# EAGLE library part LEDMATRIX (library SPCoast)
MAX7219 dot matrix module http://www.ebay.com/itm/10pcs-MAX7219-dot-matrix-module-Arduino-microcontroller-module-DIY-KIT-M67-/351218529526
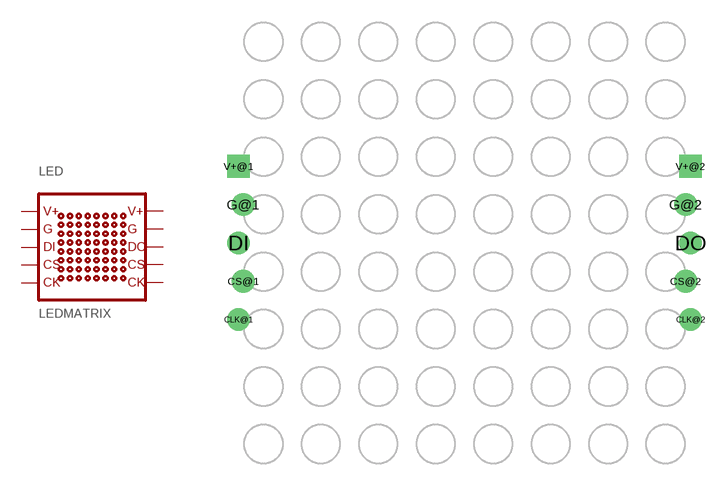
[diagram p38: symbol with the pads of LEDMATRIX; footprint LEDMATRIX]

Designator prefix LED

## LEDMATRIX  [LEDMATRIX]
CLK@1  CLK
CLK@2  CLK
CS@1  CS
CS@2  CS
DI  DIN
DO  DOUT
G@1  G
G@2  G
V+@1  V+
V+@2  V+

## Footprint LEDMATRIX (pad centres in mm)
drill 1: CLK@1 -14.986,-5.08; CLK@2 14.986,-5.08; CS@1 -14.668,-2.54; CS@2 14.668,-2.54; DI -14.986,0; DO 14.986,0; G@1 -14.668,2.54; G@2 14.668,2.54
drill 1 square: V+@1 -14.986,5.08; V+@2 14.986,5.08